# Altium integrated library MiscDev.IntLib: 30 symbols
Pins are listed as number, name and electrical type; pins without a type are passive.

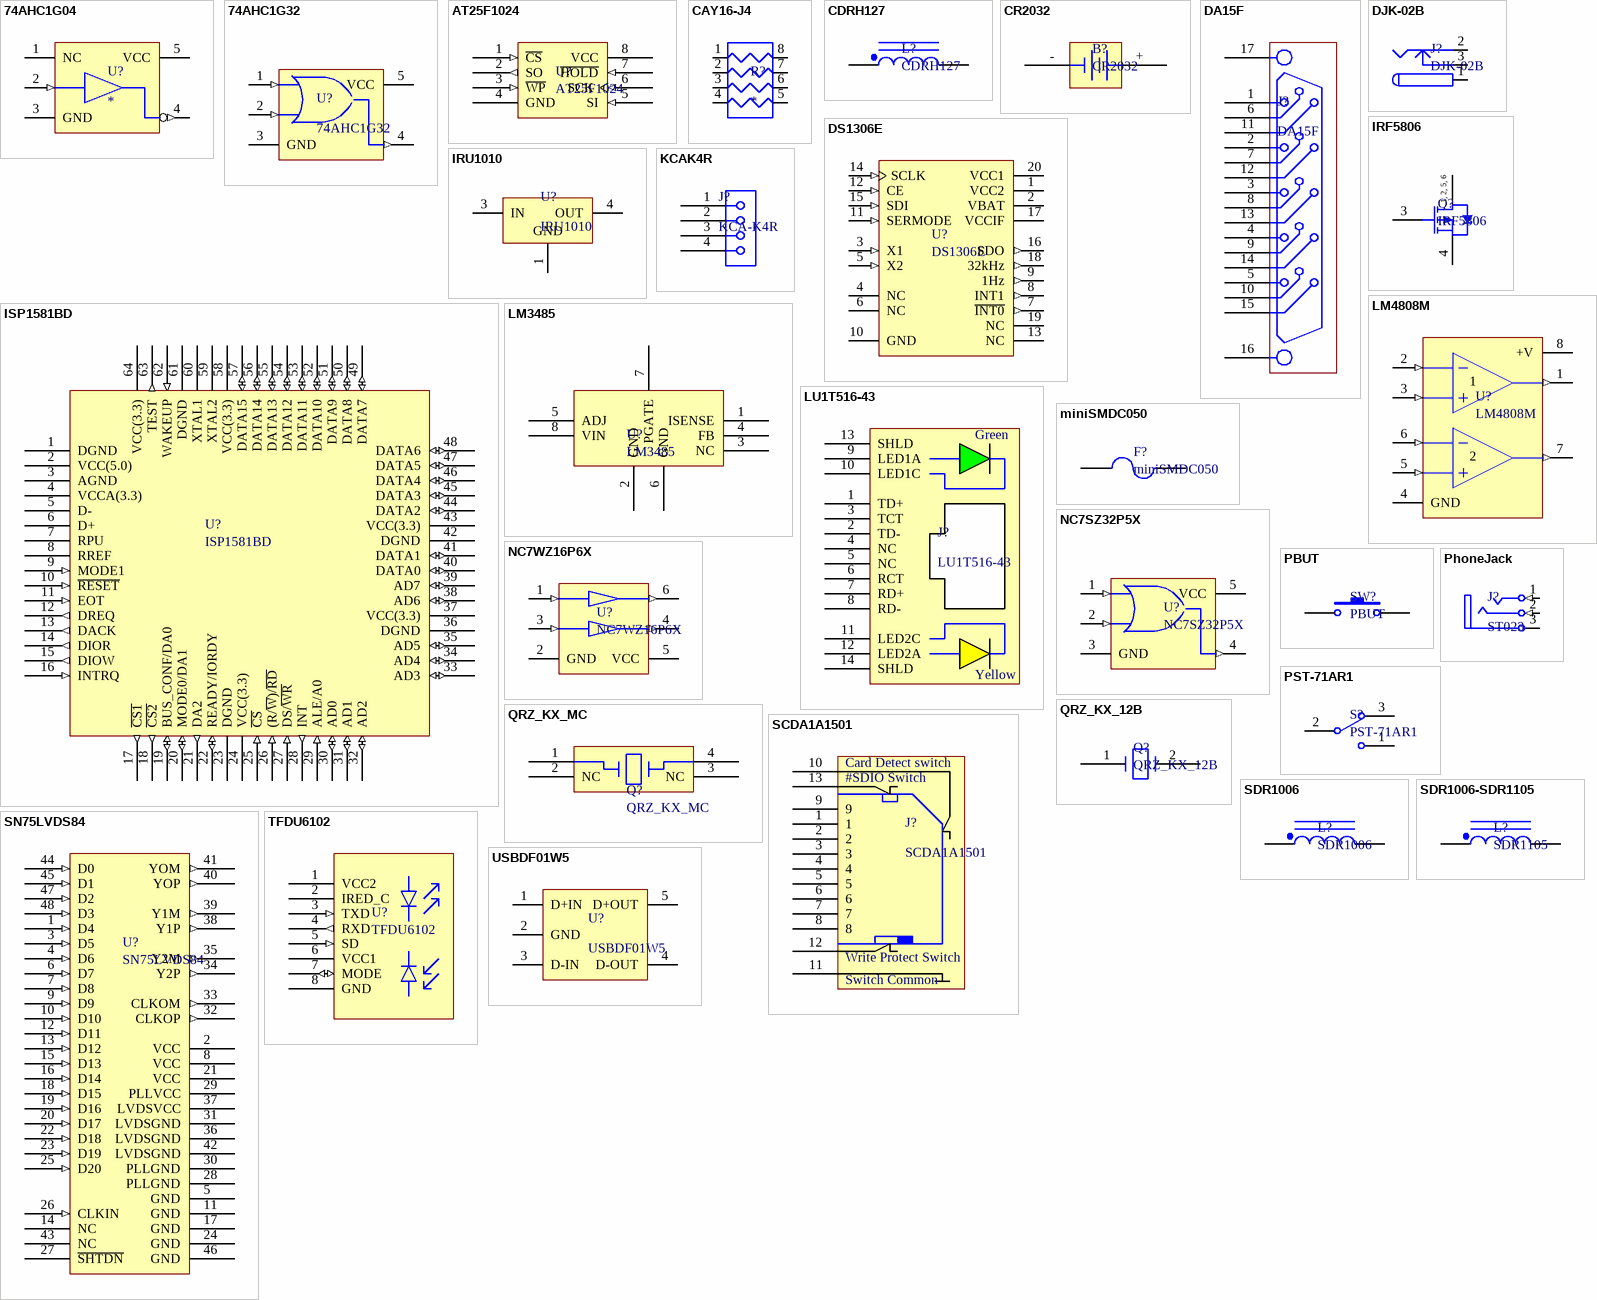
[diagram p0: symbols 74AHC1G04 to USBDF01W5]

## 74AHC1G04
designator U?
1 NOT Gate
footprint SOT353
pins: 1 NC, 2 B (in), 3 GND, 4 Y (out), 5 VCC

## 74AHC1G32
designator U?
1 OR Gate
footprint SOT353
pins: 1 A (in), 2 B (in), 3 GND, 4 Y (out), 5 VCC

## AT25F1024
designator U?
1Mbit High Speed SPI Serial Flash Memory
footprint M08A
pins: 1 ~{CS} (in), 2 SO (out), 3 ~{WP} (in), 4 GND, 5 SI (in), 6 SCK (in), 7 ~{HOLD} (in), 8 VCC

## CAY16-J4
designator R?
Chip Resistor Arrays
footprint CAY16-J4
pins: 1, 2, 3, 4, 5, 6, 7, 8

## CDRH127
designator L?
Sumida Power Inductor
footprint CDRH127
pins: 1, 2

## CR2032
designator B?
CR2032 Battery holder
footprint CR2032
pins: +, -

## DA15F
designator J?
15pin DSUB High Density Female
footprint DA15F
pins: 1, 2, 3, 4, 5, 6, 7, 8, 9, 10, 11, 12, 13, 14, 15, 16, 17

## DJK-02B
designator J?
2.5mm Power Plug
footprint DJK-02A
pins: 1 (power), 2 (power), 3 (power)

## DS1306E
designator U?
Serial Alarm Real-Time Clock
footprint TSSOP20
3D model TSSOP20 (PCB3D Model)
pins: 1 VCC2 (power), 2 VBAT (power), 3 X1 (in), 4 NC, 5 X2 (in), 6 NC, 7 ~{INT0} (out), 8 INT1 (out), 9 1Hz (out), 10 GND (power), 11 SERMODE (in), 12 CE (in), 13 NC, 14 SCLK (in), 15 SDI (in), 16 SDO (out), 17 VCCIF (power), 18 32kHz (out), 19 NC, 20 VCC1 (power)

## IRF5806
designator Q?
HEXFET Power MOSFET
footprint Micro6
pins: 1 D, 2 D, 3 G, 4 S, 5 D, 6 D
text: 1, 2, 5, 6

## IRU1010
designator U?
1A low dropout positive fixed regulator
footprint TO-252-2 (D-PAK)
pins: 1 GND (power), 3 IN (power), 4 OUT (power)

## ISP1581BD
designator U?
Hi-Speed Universal Serial Bus peripheral controller
footprint LQFP64
pins: 1 DGND, 2 VCC(5.0), 3 AGND, 4 VCCA(3.3), 5 D-, 6 D+, 7 RPU, 8 RREF, 9 MODE1 (in), 10 ~{RESET} (in), 11 EOT (in), 12 DREQ (out), 13 DACK (out), 14 DIOR (out), 15 DIOW (out), 16 INTRQ (in), 17 ~{CS1} (out), 18 ~{CS2} (out), 19 BUS_CONF/DA0 (io), 20 MODE0/DA1 (io), 21 DA2 (out), 22 READY/IORDY (io), 23 DGND, 24 VCC(3.3), 25 ~{CS} (in), 26 (R/~{W})/~{RD} (in), 27 DS/~{WR} (in), 28 INT (out), 29 ALE/A0 (in), 30 AD0 (io), 31 AD1 (io), 32 AD2 (io), 33 AD3 (io), 34 AD4 (io), 35 AD5 (io), 36 DGND, 37 VCC(3.3), 38 AD6 (io), 39 AD7 (io), 40 DATA0 (io), 41 DATA1 (io), 42 DGND, 43 VCC(3.3), 44 DATA2 (io), 45 DATA3 (io), 46 DATA4 (io), 47 DATA5 (io), 48 DATA6 (io), 49 DATA7 (io), 50 DATA8 (io), 51 DATA9 (io), 52 DATA10 (io), 53 DATA11 (io), 54 DATA12 (io), 55 DATA13 (io), 56 DATA14 (io), 57 DATA15 (io), 58 VCC(3.3), 59 XTAL2, 60 XTAL1, 61 DGND, 62 WAKEUP (in), 63 TEST (out), 64 VCC(3.3)

## KCAK4R
designator J?, comment KCA-K4R
Connector for ASTTouch Screen
footprint KCAK4R
pins: 1, 2, 3, 4

## LM3485
designator U?
Hysteretic PFET Buck Controller
footprint MSOP8
pins: 1 ISENSE, 2 GND, 3 NC, 4 FB, 5 ADJ, 6 GND, 7 PGATE, 8 VIN

## LM4808M
designator U?
Dual 105 mW Headphone Amplifier
footprint M08A
pins: 1 OUT (out), 2 IN- (in), 3 IN+ (in), 4 GND (power), 5 IN+ (in), 6 IN- (in), 7 OUT (out), 8 +V (power)

## LU1T516-43
designator J?
Single RJ45 connector with integrated 10/100 BASE-TX magnetics and leds
footprint LU1T516-43
pins: 1 TD+, 2 TD-, 3 TCT, 4 NC, 5 NC, 6 RCT, 7 RD+, 8 RD-, 9 LED1A, 10 LED1C, 11 LED2C, 12 LED2A, 13 SHLD, 14 SHLD
text: Green; Yellow

## miniSMDC050
designator F?
miniSMDC050 Fuse component
footprint miniSMDC050
pins: 1, 2

## NC7SZ32P5X
designator U?
TinyLogic UHS 2-Input OR Gate
footprint SC88A
pins: 1 A (in), 2 B (in), 3 GND, 4 Y (out), 5 VCC

## NC7WZ16P6X
designator U?
TinyLogic UHS Dual Buffer
footprint SC88
pins: 1 A (in), 2 GND, 3 B (in), 4 Y (out), 5 VCC, 6 Y (out)

## PBUT
designator SW?
DIP4 PushButton
footprint SWBUTDIP4
pins: 1, 2, 3, 4

## PhoneJack
designator J?, comment ST023
3.5" jack
footprint ST023
pins: 1 T (in) "Tip/Left Channel/(+)", 2 R (in) "Ring/Right Channel/(-)", 3 S (power) "Sleeve (Ground)"

## PST-71AR1
designator S?
footprint PST-71AR1
pins: 1, 2, 3

## QRZ_KX_12B
designator Q?
QUARTZ CRYSTAL
footprint KX-12B
pins: 1, 2

## QRZ_KX_MC
designator Q?
QUARTZ CRYSTAL
footprint KX-MC
pins: 1, 2 NC, 3 NC, 4 2

## SCDA1A1501
designator J?
Connector for SD Memory Card
footprint SCDA_NO2
pins: 1, 2, 3, 4, 5, 6, 7, 8, 9, 10 CDETECT, 11 common, 12 WP, 13 SDIO
text: Card Detect switch; #SDIO Switch; Write Protect Switch; Switch Common

## SDR1006
designator L?
SDR1006 Series - SMD Power Inductors
footprint SDR1006
pins: 1, 2

## SDR1006-SDR1105
designator L?, comment SDR1105
SDR1006/SDR1105 Series - SMD Power Inductors
footprint SDR1006-SDR1105
pins: 1, 2

## SN75LVDS84
designator U?
LVDS 18-Bit Color Flat Panel Display (FPD) Link
footprint TSSO12x8-48
pins: 1 D4 (in), 2 VCC, 3 D5 (in), 4 D6 (in), 5 GND, 6 D7 (in), 7 D8 (in), 8 VCC, 9 D9 (in), 10 D10 (in), 11 GND, 12 D11 (in), 13 D12 (in), 14 NC, 15 D13 (in), 16 D14 (in), 17 GND, 18 D15 (in), 19 D16 (in), 20 D17 (in), 21 VCC, 22 D18 (in), 23 D19 (in), 24 GND, 25 D20 (in), 26 CLKIN (in), 27 ~{SHTDN}, 28 PLLGND, 29 PLLVCC, 30 PLLGND, 31 LVDSGND, 32 CLKOP (out), 33 CLKOM (out), 34 Y2P (out), 35 Y2M (out), 36 LVDSGND, 37 LVDSVCC, 38 Y1P (out), 39 Y1M (out), 40 YOP (out), 41 YOM (out), 42 LVDSGND, 43 NC, 44 D0 (in), 45 D1 (in), 46 GND, 47 D2 (in), 48 D3 (in)

## TFDU6102
designator U?
Fast Infrared Transceiver Module (FIR, 4 Mbit/s)
footprint TFDU_8PIN
pins: 1 VCC2, 2 IRED_C, 3 TXD (in), 4 RXD (out), 5 SD (in), 6 VCC1, 7 MODE (io), 8 GND

## USBDF01W5
designator U?
EMI FILTER AND LINE TERMINATION  FOR USB DOWNSTREAM PORTS
footprint SOT353
pins: 1 D+IN, 2 GND, 3 D-IN, 4 D-OUT, 5 D+OUT